# Altium integrated library SemiCond.IntLib: 64 symbols
Pins are listed as number, name and electrical type; pins without a type are passive.

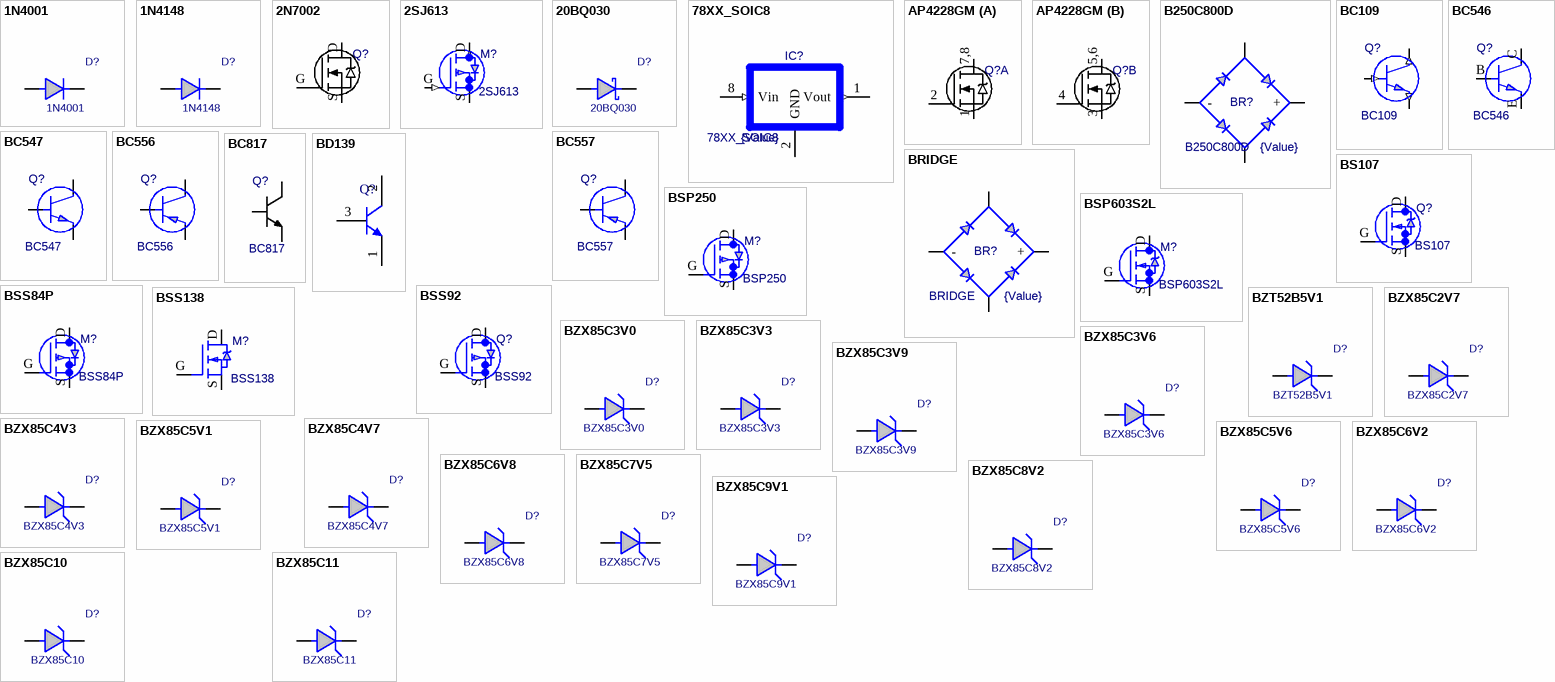
[diagram p0: symbols 1N4001 to BZX85C11]

## 1N4001
designator D?
Value: *
footprint DO 41 (400MILS) larger pads
pins: 1, 2

## 1N4148
designator D?
Value: *
footprint MELF3517N_DIO (MELF Diode, 2-Leads, Body 3,5x1,7mm, IPC Medium Density)
footprint SOD-123-DIODE
footprint DO 41 (400MILS)
pins: 1, 2

## 2N7002
designator Q?
N-ch, Vdss=60V, Id=115mA, Rdson=2R; Value: {Value}
footprint SOT23; pin to pad D>3 G>1 S>2
pins: D, G, S

## 2SJ613
designator M?
Value: {Value}
footprint _SOT89_2SJ613(Primary)
pins: D (out), D2 (out) hidden, G (in), S (power)

## 20BQ030
designator D?
Value: *
footprint DO-214AA (SMB) (Molded Diode, 2-Leads, Body 4,4x3,6mm, IPC Medium Density); pin to pad A>2 K>1
pins: A, K

## 78XX_SOIC8
designator IC?  value {Value}
footprint SO8R
pins: 1 Vout (out), 2 GND (power), 3 GND (power), 4 hidden, 5 hidden, 6 GND (power), 7 GND (power), 8 Vin (in)

## AP4228GM
designator Q?
Dual N-ch, Id=6.8A, Vdss=30V, Rdson=26m; Value: {Value}
footprint SOIC8N
part A pins: 1 S1, 2 G1, 7 D1, 8 D1
part B pins: 3 S2, 4 G2, 5 D2, 6 D2
part A text: 7,8
part B text: 5,6

## B250C800D
designator BR?  value {Value}
footprint DIP4M-GREZ
pins: AC1, AC2, GND -, PLUS +

## BC109
designator Q?
Value: {Value}
footprint _TO18_BC109(Primary)
pins: B (in), C (out), E (out)

## BC546
designator Q?
Value: {Value}
footprint TO-92; pin to pad B>2 C>1 E>3
pins: B, C, E

## BC547
designator Q?
Value: {Value}
footprint TO-92; pin to pad 1>3 3>1
pins: 1, 2, 3

## BC556
designator Q?
Value: {Value}
footprint TO-92; pin to pad B>2 C>1 E>3
pins: B, C, E

## BC557
designator Q?
Value: {Value}
footprint TO-92; pin to pad B>2 C>1 E>3
pins: B, C, E

## BC817
designator Q?
Value: {Value}
footprint SOT23; pin to pad B>1 C>3 E>2
pins: B, C, E

## BD139
designator Q?
Plastic Medium-Power Silicon NPN Transistor, 3-Pin TO-225, Bulk Box; Manufacturer: On Semiconductor; PartNumber: BD139; IC Continuous (A): 1.5; DatasheetVersion: Rev. 16; PackageVersion: Rev. AC, 12/2013; PackageReference: TO-225-3-77-09; PackageDescription: 3-Pin Flange Mount, Vertical Straight Lead, Body 7.6 x 2.7 mm, Pitch 2.29 mm; Supplier 1: Digi-Key; Supplier Part Number 1: BD139OS-ND; Packing: Bulk Box; Polarity: NPN; RoHS: FALSE; Mounting Technology: Through Hole; ComponentLink1Description: Manufacturer URL; ComponentLink1URL: http://www.onsemi.com/; ComponentLink2Description: Datasheet; ComponentLink2URL: http://www.onsemi.com/pub_link/Collateral/BD135-D.PDF; ComponentLink3Description: Package Specification; ComponentLink3URL: http://www.onsemi.com/pub_link/Collateral/77-09.PDF
footprint TO-126 (FM, 3-Leads, Body 7.8x3mm, Pitch 2.29mm)
pins: 1 E, 2 C, 3 B

## BRIDGE
designator BR?  value {Value}
footprint BRIDGE
pins: 1, 2 +, 3, 4 -

## BS107
designator Q?
Value: {Value}
footprint TO-92; pin to pad D>1 G>2 S>3
pins: D, G, S

## BSP250
designator M?
Value: {Value}
footprint _SOT223_BSP250(Primary)
pins: D, DD hidden, G, S

## BSP603S2L
designator M?
Value: {Value}
footprint _SOT223_BSP603S2L(Primary)
pins: D, DD hidden, G, S

## BSS84P
designator M?
Value: {Value}
footprint SOT23; pin to pad D>3 G>1 S>2
pins: D, G, S

## BSS92
designator Q?
Value: {Value}
footprint TO-92; pin to pad D>3 G>2 S>1
pins: D, G, S

## BSS138
designator M?
Value: {Value}
footprint SOT23-BSS138; pin to pad D>3 G>1 S>2
pins: D, G, S

## BZT52B5V1
designator D?
Farnell order number: 1617767; Value: *
footprint SOD-123-DIODE
pins: 1, 2

## BZX85C2V7
designator D?
Value: *
footprint DO 35 (300MILS)
pins: A, K

## BZX85C3V0
designator D?
Value: *
footprint DO 35 (300MILS)
pins: A, K

## BZX85C3V3
designator D?
Value: *
footprint DO 35 (300MILS)
pins: A, K

## BZX85C3V6
designator D?
Value: *
footprint DO 35 (300MILS)
pins: A, K

## BZX85C3V9
designator D?
Value: *
footprint DO 35 (300MILS)
pins: A, K

## BZX85C4V3
designator D?
Value: *
footprint DO 35 (300MILS)
pins: A, K

## BZX85C4V7
designator D?
Value: *
footprint DO 35 (300MILS)
pins: A, K

## BZX85C5V1
designator D?
Value: *
footprint DO 35 (300MILS)
pins: A, K

## BZX85C5V6
designator D?
Value: *
footprint DO 35 (300MILS)
pins: A, K

## BZX85C6V2
designator D?
Value: *
footprint DO 35 (300MILS)
pins: A, K

## BZX85C6V8
designator D?
Value: *
footprint DO 35 (300MILS)
pins: A, K

## BZX85C7V5
designator D?
Value: *
footprint DO 35 (300MILS)
pins: A, K

## BZX85C8V2
designator D?
Value: *
footprint DO 35 (300MILS)
pins: A, K

## BZX85C9V1
designator D?
Value: *
footprint DO 35 (300MILS)
pins: A, K

## BZX85C10
designator D?
Value: *
footprint DO 35 (300MILS)
pins: A, K

## BZX85C11
designator D?
Value: *
footprint DO 35 (300MILS)
pins: A, K

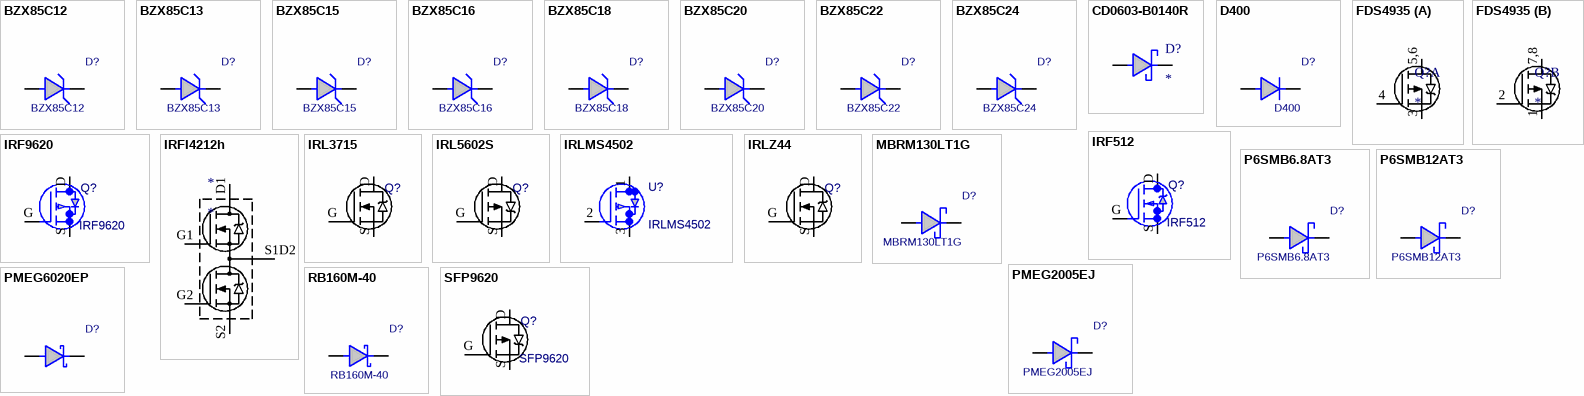
[diagram p1: symbols BZX85C12 to SFP9620]

## BZX85C12
designator D?
Value: *
footprint DO 35 (300MILS)
pins: A, K

## BZX85C13
designator D?
Value: *
footprint DO 35 (300MILS)
pins: A, K

## BZX85C15
designator D?
Value: *
footprint DO 35 (300MILS)
pins: A, K

## BZX85C16
designator D?
Value: *
footprint DO 35 (300MILS)
pins: A, K

## BZX85C18
designator D?
Value: *
footprint DO 35 (300MILS)
pins: A, K

## BZX85C20
designator D?
Value: *
footprint DO 35 (300MILS)
pins: A, K

## BZX85C22
designator D?
Value: *
footprint DO 35 (300MILS)
pins: A, K

## BZX85C24
designator D?
Value: *
footprint DO 35 (300MILS)
pins: A, K

## CD0603-B0140R
designator D?
Schottkey 40V, 0.1A, 450mV; Supplier 1: Farnell; Supplier Part Number 1: 2341899
footprint CD0603 (0603 for Bourns CD0603-B0140R schottkey diode)
pins: 1, 2

## D400
designator D?
Value: *
footprint D400
pins: 1, 2

## FDS4935
designator Q?
Dual P-ch, Ids=6.9A, Vdss=30V, Rdson=35m
footprint SOIC8N
part A pins: 3 S1, 4 G1, 5 D1, 6 D1
part B pins: 1 S2, 2 G2, 7 D2, 8 D2
part A text: 5,6
part B text: 7,8

## IRF512
designator Q?
Value: {Value}
footprint TO-220AB vertical
footprint TO-220AB horizontal
footprint TO-220AB vertical + HS
footprint TO-220AB vertical + HS2
pins: D, G, S

## IRF9620
designator Q?
Value: {Value}
footprint TO-220AB vertical
footprint TO-220AB horizontal
footprint TO-220AB vertical + HS
footprint TO-220AB vertical + HS2
pins: D, G, S

## IRFI4212h
designator *
footprint TO-220-5; pin to pad D1>5 G1>4 G2>2 S1D2>3 S2>1
pins: D1, G1, G2, S1D2, S2

## IRL3715
designator Q?
HEX-FET Vdss=20V, Id=50A, Rdson=0.011R; Value: {Value}
footprint D2-PAK (D2-PAK, 3-Pads, Body 10,2x10,5mm (max), IPC Medium Density); pin to pad D>2 G>1 S>3
pins: D, G, S

## IRL5602S
designator Q?
HEX-FET Vdss=-20V, Id=-24A, Rdson=0.024R; Value: {Value}
footprint D2-PAK (D2-PAK, 3-Pads, Body 10,2x10,5mm (max), IPC Medium Density); pin to pad D>2 G>1 S>3
pins: D, G, S

## IRLMS4502
designator U?
Value: {Value}
footprint _MICRO6_IRLMS4502(Primary)
pins: 1 D, 2 G, 3 S, 4 hidden, 5 hidden, 6 hidden

## IRLZ44
designator Q?
HEX-FET Vdss=60V, Id=35A, Rdson=0.04R; Value: {Value}
footprint D2-PAK (D2-PAK, 3-Pads, Body 10,2x10,5mm (max), IPC Medium Density); pin to pad D>2 G>1 S>3
pins: D, G, S

## MBRM130LT1G
designator D?
Value: *
footprint POWERMITE
pins: 1, 2

## P6SMB6.8AT3
designator D?
Value: *
footprint SMB (Molded Diode, 2-Leads, Body 4.83x3.63mm, IPC Medium Density); pin to pad A>2 K>1
pins: A, K

## P6SMB12AT3
designator D?
Value: *
footprint SMB (Molded Diode, 2-Leads, Body 4.83x3.63mm, IPC Medium Density); pin to pad A>2 K>1
pins: A, K

## PMEG2005EJ
designator D?
Value: *
footprint SOD-323F
pins: 1, 2

## PMEG6020EP
designator D?  (value not drawn)
Schottky 2A, 60V, Vf@2A=460-530mV; Value: *
footprint SOD-128-diode (Diode, 2-Leads, Body 4,95x2,50mm, IPC Medium Density)
pins: 1 K, 2 A

## RB160M-40
designator D?
Schottky 1A, 40V; Value: *
footprint SOD-123 (SODFL, 2-Leads, Body 1,60x3,50mm, IPC Medium Density)
pins: 1, 2

## SFP9620
designator Q?
Value: {Value}
footprint TO-220AB horizontal
footprint TO-220AB vertical
footprint TO-220AB vertical + HS
footprint TO-220AB vertical + HS2
pins: D, G, S